# EAGLE library part RA-8 (library RoboJackets-Resistors)
Isolated Network Resistor Array x8
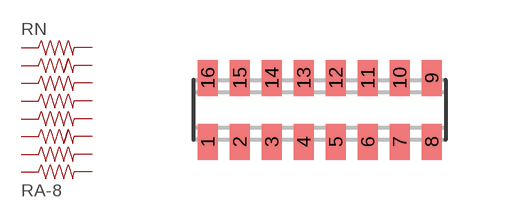
[diagram p1: symbol with the pads of RA-8_2506; footprint RA-8_2506]

Designator prefix RN

## RA-82506  [RA-8_2506]
1  1  pas
2  3  pas
3  5  pas
4  7  pas
5  9  pas
6  11  pas
7  13  pas
8  15  pas
9  16  pas
10  14  pas
11  12  pas
12  10  pas
13  8  pas
14  6  pas
15  4  pas
16  2  pas

## Footprint RA-8_2506 (pad centres in mm)
Chip Resistor Array <http://www.ctscorp.com/components/Datasheets/CTSChipArrayDs.pdf>
smd 0.5 x 0.9: 1 -2.8,-0.8; 2 -2,-0.8; 3 -1.2,-0.8; 4 -0.4,-0.8; 5 0.4,-0.8; 6 1.2,-0.8; 7 2,-0.8; 8 2.8,-0.8; 9 2.8,0.8; 10 2,0.8; 11 1.2,0.8; 12 0.4,0.8; 13 -0.4,0.8; 14 -1.2,0.8; 15 -2,0.8; 16 -2.8,0.8